# Altium footprint library type-C.PcbLib: 1 footprints
Each footprint in its own frame and in the unit in brackets; x right, y up, seen from the top. Pads: shape width x height; smd on the part's side, far side on the other; paste and mask are expansions set on the pad; w line width, h text height; cw(c..) or ccw(c..) is an arc to the next point about the centre after c.
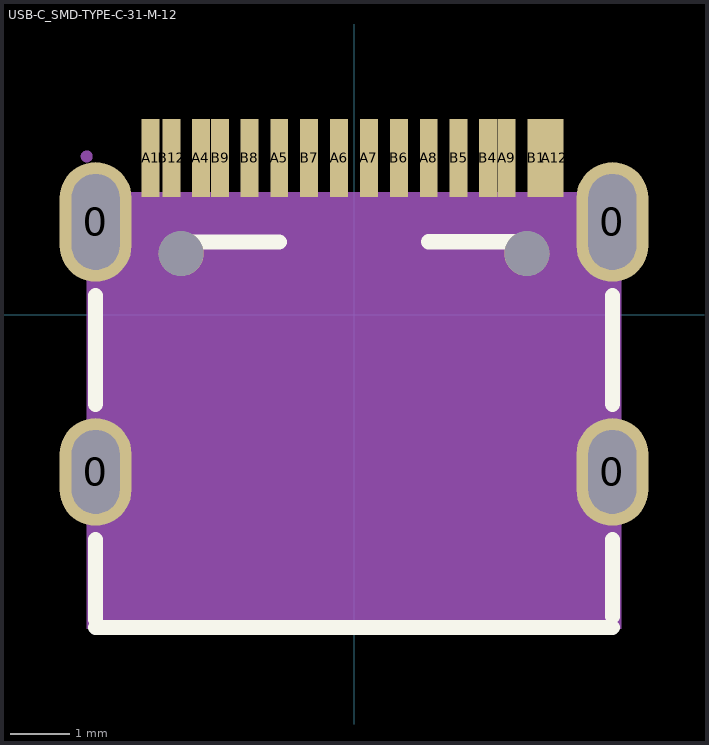
[diagram p0: the footprint, top view; thin cyan lines are the x and y axes]

## USB-C_SMD-TYPE-C-31-M-12 [mm]
pads (22):
  oval 1.2x1.8 hole 0.8 slot 1.4 at 90 deg: 0(-4.32,-2.624) 0(4.32,-2.624)
  oval 1.2x2 hole 0.8 slot 1.6 at 90 deg: 0(-4.32,1.556) 0(4.32,1.556)
  rect 0.3x1.3 smd: A1(-3.4,2.624) A4(-2.56,2.624) A5(-1.25,2.624) A6(-0.25,2.624) A7(0.25,2.624) A8(1.25,2.624) A9(2.55,2.624) A12(3.35,2.624) B1(3.05,2.624) B4(2.24,2.624) B5(1.75,2.624) B6(0.75,2.624) B7(-0.75,2.624) B8(-1.75,2.624) B9(-2.24,2.624) B12(-3.05,2.624)
  round 0.75 hole 0.75 unplated: ""(-2.89,1.026) ""(2.89,1.026)
Top Overlay:
  lines w0.254: -4.32,-5.227 4.32,-5.227 ; -4.32,-5.091 -4.32,-3.755 ; -4.32,-1.493 -4.32,0.325 ; -3,1.221 -1.25,1.221 ; 1.247,1.224 2.997,1.224 ; 4.32,-5.04 4.32,-3.755 ; 4.32,-1.493 4.32,0.325
Top Paste:
  region: 4.92,-2.54 4.919,-2.541 4.919,-2.93 4.919,-3.048 4.829,-3.265 4.662,-3.432 4.445,-3.522 4.327,-3.522 4.28,-3.522 4.169,-3.522 3.965,-3.437 3.808,-3.281 3.724,-3.076 3.724,-2.966 3.724,-2.677 3.722,-2.315 3.722,-2.198 3.811,-1.982 3.977,-1.816 4.193,-1.726 4.311,-1.726 4.345,-1.726 4.46,-1.726 4.671,-1.814 4.833,-1.976 4.921,-2.187 4.921,-2.302 4.921,-2.418
  region: -3.72,-2.54 -3.721,-2.541 -3.721,-2.93 -3.721,-3.048 -3.811,-3.265 -3.978,-3.432 -4.195,-3.522 -4.313,-3.522 -4.36,-3.522 -4.471,-3.522 -4.675,-3.437 -4.832,-3.281 -4.916,-3.076 -4.916,-2.966 -4.916,-2.677 -4.919,-2.315 -4.919,-2.198 -4.829,-1.982 -4.663,-1.816 -4.447,-1.726 -4.33,-1.726 -4.295,-1.726 -4.18,-1.726 -3.969,-1.814 -3.807,-1.976 -3.72,-2.187 -3.72,-2.302 -3.72,-2.418
  region: 3.721,1.134 3.721,1.02 3.809,0.807 3.971,0.645 4.183,0.557 4.298,0.557 4.324,0.557 4.442,0.557 4.661,0.648 4.828,0.815 4.919,1.034 4.919,1.152 4.919,1.224 4.92,1.978 4.92,2.092 4.832,2.305 4.67,2.467 4.458,2.555 4.343,2.555 4.308,2.555 4.191,2.555 3.976,2.465 3.811,2.301 3.721,2.085 3.721,1.969 3.721,1.916
  region: -4.919,1.134 -4.919,1.02 -4.831,0.807 -4.669,0.645 -4.457,0.557 -4.342,0.557 -4.316,0.557 -4.198,0.557 -3.979,0.648 -3.812,0.815 -3.721,1.034 -3.721,1.152 -3.721,1.224 -3.72,1.978 -3.72,2.092 -3.808,2.305 -3.97,2.467 -4.182,2.555 -4.297,2.555 -4.333,2.555 -4.449,2.555 -4.665,2.465 -4.829,2.301 -4.919,2.085 -4.919,1.969 -4.919,1.916
Mechanical 4:
  region: -4.47,2.05 4.47,2.05 4.47,-5.25 -4.47,-5.25
Mechanical 6:
  circle w0.1: c-4.47,2.65 r0.05